# Altium footprint library CC2590.PcbLib: 1 footprints
Each footprint in its own frame and in the unit in brackets; x right, y up, seen from the top. Pads: shape width x height; smd on the part's side, far side on the other; paste and mask are expansions set on the pad; w line width, h text height; cw(c..) or ccw(c..) is an arc to the next point about the centre after c.
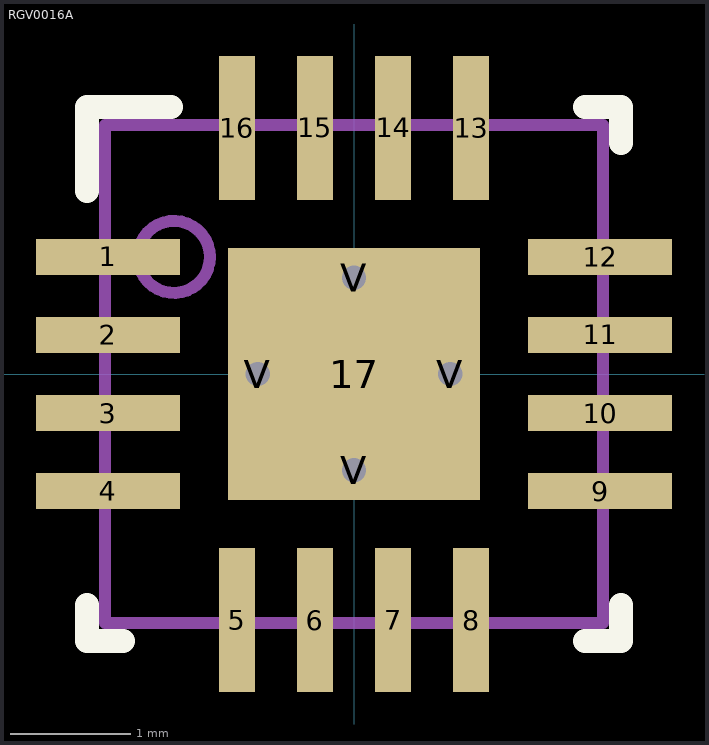
[diagram p0: the footprint, top view; thin cyan lines are the x and y axes]

## RGV0016A [mm]
pads (21):
  rect 1.2x0.3 smd paste+0 mask+0.051: 1(-2.05,0.975) 2(-2.05,0.325) 3(-2.05,-0.325) 4(-2.05,-0.975) 9(2.05,-0.975) 10(2.05,-0.325) 11(2.05,0.325) 12(2.05,0.975)
  rect 0.3x1.2 smd paste+0 mask+0.051: 5(-0.975,-2.05) 6(-0.325,-2.05) 7(0.325,-2.05) 8(0.975,-2.05) 13(0.975,2.05) 14(0.325,2.05) 15(-0.325,2.05) 16(-0.975,2.05)
  rect 2.1x2.1 smd paste-1.037 mask+0.051: 17(0,0)
  round 0.5 / inner round 1.524 / far side round 0.5 hole 0.203 mask+0.051: V(-0.8,0) V(0,-0.8) V(0,0.8) V(0.8,0)
Top Overlay:
  lines w0.2: -2.225,-1.925 -2.225,-2.225 -1.925,-2.225 ; -2.225,1.525 -2.225,2.225 -1.525,2.225 ; 1.925,-2.225 2.225,-2.225 2.225,-1.925 ; 1.925,2.225 2.225,2.225 2.225,1.925
Top Paste:
  region: 0.101,-0.997 0.1,-0.987 0.1,-0.152 0.101,-0.142 0.104,-0.132 0.109,-0.123 0.115,-0.115 0.123,-0.109 0.132,-0.104 0.142,-0.101 0.152,-0.1 0.987,-0.1 0.997,-0.101 1.007,-0.104 1.016,-0.109 1.024,-0.115 1.03,-0.123 1.035,-0.132 1.038,-0.142 1.039,-0.152 1.039,-0.987 1.038,-0.997 1.035,-1.007 1.03,-1.016 1.024,-1.024 1.016,-1.03 1.007,-1.035 0.997,-1.038 0.987,-1.039 0.152,-1.039 0.142,-1.038 0.132,-1.035 0.123,-1.03 0.115,-1.024 0.109,-1.016 0.104,-1.007
  region: -0.101,-0.142 -0.1,-0.152 -0.1,-0.987 -0.101,-0.997 -0.104,-1.007 -0.109,-1.016 -0.115,-1.024 -0.123,-1.03 -0.132,-1.035 -0.142,-1.038 -0.152,-1.039 -0.987,-1.039 -0.997,-1.038 -1.007,-1.035 -1.016,-1.03 -1.024,-1.024 -1.03,-1.016 -1.035,-1.007 -1.038,-0.997 -1.039,-0.987 -1.039,-0.152 -1.038,-0.142 -1.035,-0.132 -1.03,-0.123 -1.024,-0.115 -1.016,-0.109 -1.007,-0.104 -0.997,-0.101 -0.987,-0.1 -0.152,-0.1 -0.142,-0.101 -0.132,-0.104 -0.123,-0.109 -0.115,-0.115 -0.109,-0.123 -0.104,-0.132
  region: -0.101,0.997 -0.1,0.987 -0.1,0.152 -0.101,0.142 -0.104,0.132 -0.109,0.123 -0.115,0.115 -0.123,0.109 -0.132,0.104 -0.142,0.101 -0.152,0.1 -0.987,0.1 -0.997,0.101 -1.007,0.104 -1.016,0.109 -1.024,0.115 -1.03,0.123 -1.035,0.132 -1.038,0.142 -1.039,0.152 -1.039,0.987 -1.038,0.997 -1.035,1.007 -1.03,1.016 -1.024,1.024 -1.016,1.03 -1.007,1.035 -0.997,1.038 -0.987,1.039 -0.152,1.039 -0.142,1.038 -0.132,1.035 -0.123,1.03 -0.115,1.024 -0.109,1.016 -0.104,1.007
  region: 0.101,0.142 0.1,0.152 0.1,0.987 0.101,0.997 0.104,1.007 0.109,1.016 0.115,1.024 0.123,1.03 0.132,1.035 0.142,1.038 0.152,1.039 0.987,1.039 0.997,1.038 1.007,1.035 1.016,1.03 1.024,1.024 1.03,1.016 1.035,1.007 1.038,0.997 1.039,0.987 1.039,0.152 1.038,0.142 1.035,0.132 1.03,0.123 1.024,0.115 1.016,0.109 1.007,0.104 0.997,0.101 0.987,0.1 0.152,0.1 0.142,0.101 0.132,0.104 0.123,0.109 0.115,0.115 0.109,0.123 0.104,0.132
Mechanical 13:
  circle w0.1: c-1.5,0.975 r0.3
  lines w0.1: -2.075,-2.075 2.075,-2.075 2.075,2.075 -2.075,2.075 -2.075,-2.075
3D body: height 1, standoff 0, extent -2.125,-2.125 2.125,2.125
3D body: height 0.25, standoff 0, extent 0,0 0.254,0.254